# Altium footprint library ResistorPCB.PcbLib: 1 footprints
Each footprint in its own frame and in the unit in brackets; x right, y up, seen from the top. Pads: shape width x height; smd on the part's side, far side on the other; paste and mask are expansions set on the pad; w line width, h text height; cw(c..) or ccw(c..) is an arc to the next point about the centre after c.
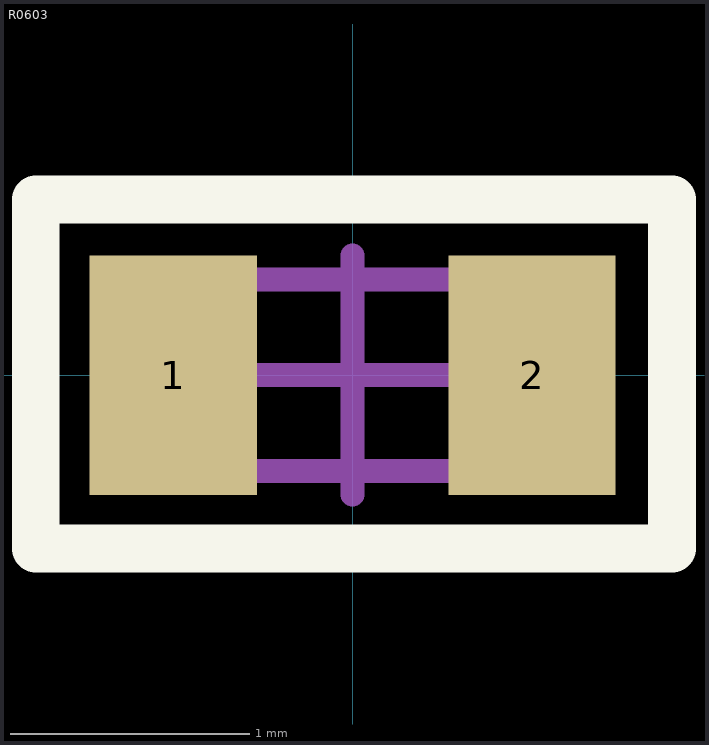
[diagram p0: the footprint, top view; thin cyan lines are the x and y axes]

## R0603 [mm]
pads (2):
  rect 0.7x1 smd: 1(-0.75,0) 2(0.75,0)
Top Overlay:
  lines w0.2: 1.325,0.735 1.335,0.735 ; 1.335,0.735 -1.325,0.735 -1.325,-0.725 1.325,-0.725 1.335,-0.725 1.335,0.735
Top Value:
  text ".Comment" at 1.525,0.325 h1.52
Top Designator:
  text ".Designator" at 1.525,-0.819 h1.52
Top Outline:
  lines w0.1: -0.8,-0.4 -0.8,0.4 0.8,0.4 0.8,-0.4 -0.8,-0.4
Top Courtyard:
  lines w0.1: -0.5,0 0.5,0 ; 0,-0.5 0,0.5 ; -1.324,-0.725 1.336,-0.725 1.336,0.729 -1.324,0.729 -1.324,-0.725
3D body "User Library-CR1608-0603.step": height 0.45, standoff 0, extent -0.8,-0.4 0.8,0.4